# Altium schematic symbol library 1N4448WS-7-F.SchLib: 1 symbol
Pins are listed as number, name and electrical type; pins without a type are passive.

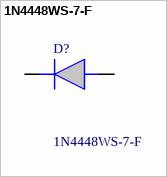
[diagram p0: symbol 1N4448WS-7-F]

## 1N4448WS-7-F
designator D?
Diode Switching 75V 0.25A 2Pin SOD323 Diodes Inc 1N4448WS-7-F Switching Diode, 500mA 75V, 2-Pin SOD-323; Manufacturer_Name: Diodes Incorporated; Geometry.Height: 1.2mm; Manufacturer_Part_Number: 1N4448WS-7-F; Mouser Part Number: 621-1N4448WS-F; Mouser Price/Stock: https://www.mouser.co.uk/ProductDetail/Diodes-Incorporated/1N4448WS-7-F?qs=4drIV0IxA0qGSTUvNxPxDA%3D%3D; Arrow Part Number: 1N4448WS-7-F; Arrow Price/Stock: https://www.arrow.com/en/products/1n4448ws-7-f/diodes-incorporated?utm_currency=USD&region=nac; Datasheet Link: https://www.diodes.com//assets/Datasheets/ds30096.pdf
footprint SOD2513X120N
pins: 1 K, 2 A